# Altium schematic symbol library MOC3022S.Schlib: 1 symbol
Pins are listed as number, name and electrical type; pins without a type are passive.

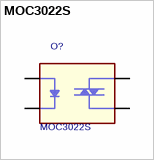
[diagram p0: symbol MOC3022S]

## MOC3022S
designator O?
TRIAC Optoisolator
pins: 1 ANODE, 2 CATHODE, 4 E (oe), 6 C (oc)